# EAGLE library part TCAN337D (library IC, STM and CAN parts)
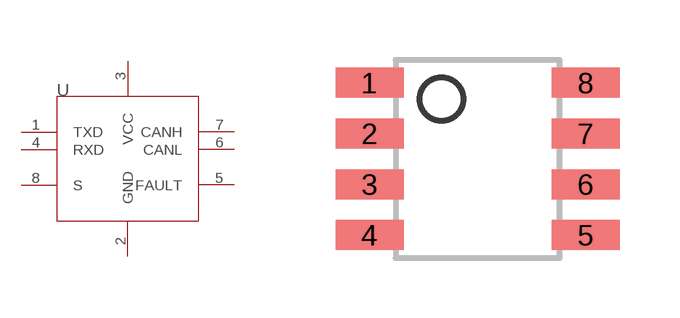
[diagram p2: symbol with the pads of SOIC-8; footprint SOIC-8]

Designator prefix -

## TCAN337D  [SOIC-8]
1  TXD
2  GND
3  VCC
4  RXD
5  FAULT
6  CANL
7  CANH
8  S

## Footprint SOIC-8 (pad centres in mm)
smd 1.7 x 0.75: 1 0,3.81; 2 0,2.54; 3 0,1.27; 4 0,0; 5 5.4,0; 6 5.4,1.27; 7 5.4,2.54; 8 5.4,3.81